# Altium footprint library ES0603V014BT.PcbLib: 1 footprints
Each footprint in its own frame and in the unit in brackets; x right, y up, seen from the top. Pads: shape width x height; smd on the part's side, far side on the other; paste and mask are expansions set on the pad; w line width, h text height; cw(c..) or ccw(c..) is an arc to the next point about the centre after c.
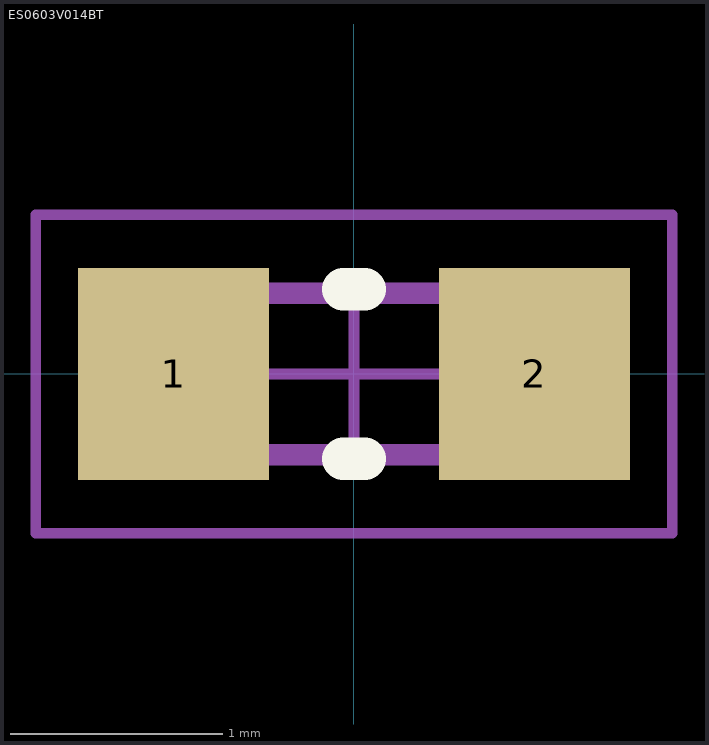
[diagram p0: the footprint, top view; thin cyan lines are the x and y axes]

## ES0603V014BT [mm] "Pitch 1mm Body1.6x0.8mm High 0.8mm"
height 0.8
pads (2):
  rect 0.9x1 smd: 1(-0.85,0) 2(0.85,0)
Top Overlay:
  lines w0.2: -0.05,-0.4 0.05,-0.4 ; -0.05,0.4 0.05,0.4
Mechanical 13:
  lines w0.1: -0.8,-0.381 0.8,-0.381 0.8,0.381 -0.8,0.381 -0.8,-0.381
Mechanical 15:
  lines w0.05: -0.475,0 0.475,0 ; 0,-0.475 0,0.475 ; -1.5,-0.75 1.5,-0.75 1.5,0.75 -1.5,0.75 -1.5,-0.75
3D body: height 0.76, standoff -0.04, extent -0.8,-0.4 0.8,0.4